# Altium schematic symbol library MAX15157BATJ+.SchLib: 1 symbol
Pins are listed as number, name and electrical type; pins without a type are passive.

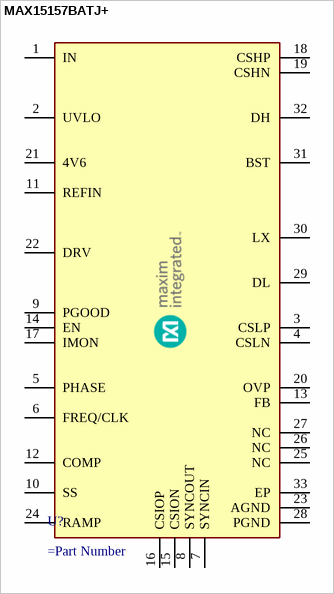
[diagram p0: symbol MAX15157BATJ+]

## MAX15157BATJ+
designator U?
=Description
footprint MAX15157BATJ+
pins: 1 IN, 2 UVLO, 3 CSLP, 4 CSLN, 5 PHASE, 6 FREQ/CLK, 7 SYNCIN, 8 SYNCOUT, 9 PGOOD, 10 SS, 11 REFIN, 12 COMP, 13 FB, 14 EN, 15 CSION, 16 CSIOP, 17 IMON, 18 CSHP, 19 CSHN, 20 OVP, 21 4V6, 22 DRV, 23 AGND, 24 RAMP, 25 NC, 26 NC, 27 NC, 28 PGND, 29 DL, 30 LX, 31 BST, 32 DH, 33 EP